# EAGLE library part S25FLXXXS (library dooba)
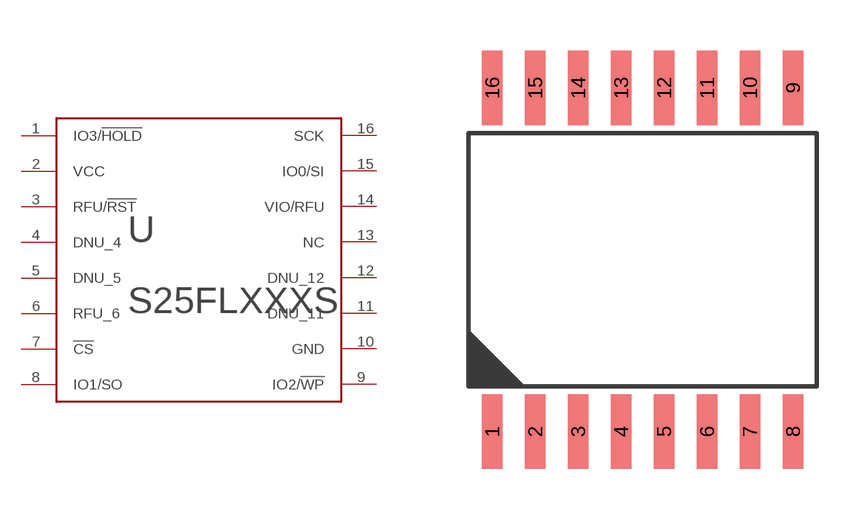
[diagram p0: symbol with the pads of SO3-016; footprint SO3-016]

Designator prefix U

## S25FLXXXSSOIC16  [SO3-016]
1  IO3/!HOLD
2  VCC
3  RFU/!RST
4  DNU_4
5  DNU_5
6  RFU_6
7  !CS
8  IO1/SO
9  IO2/!WP
10  GND
11  DNU_11
12  DNU_12
13  NC
14  VIO/RFU
15  IO0/SI
16  SCK

## Footprint SO3-016 (pad centres in mm)
smd 0.6 x 2.2: 1 -4.445,-5.08; 2 -3.175,-5.08; 3 -1.905,-5.08; 4 -0.635,-5.08; 5 0.635,-5.08; 6 1.905,-5.08; 7 3.175,-5.08; 8 4.445,-5.08; 9 4.445,5.08; 10 3.175,5.08; 11 1.905,5.08; 12 0.635,5.08; 13 -0.635,5.08; 14 -1.905,5.08; 15 -3.175,5.08; 16 -4.445,5.08